# Altium footprint library 497-7740-1-ND.PcbLib: 1 footprints
Each footprint in its own frame and in the unit in brackets; x right, y up, seen from the top. Pads: shape width x height; smd on the part's side, far side on the other; paste and mask are expansions set on the pad; w line width, h text height; cw(c..) or ccw(c..) is an arc to the next point about the centre after c.
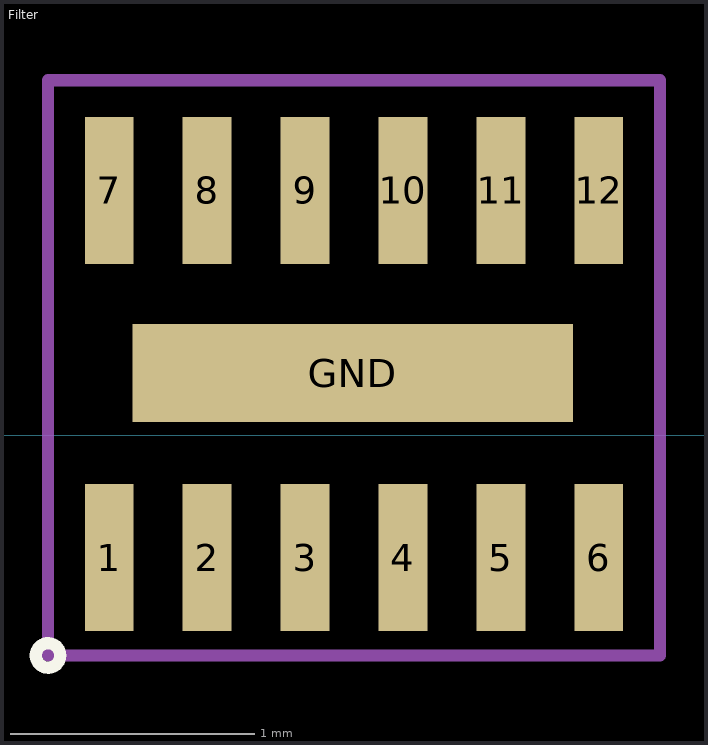
[diagram p0: the footprint, top view; thin cyan lines are the x and y axes]

## Filter [mm] "EMIFilter"
pads (13):
  rect 0.2x0.6 smd mask+0.05: 1(-2.9,-0.5) 2(-2.5,-0.5) 3(-2.1,-0.5) 4(-1.7,-0.5) 5(-1.3,-0.5) 6(-0.9,-0.5) 7(-2.9,1) 8(-2.5,1) 9(-2.1,1) 10(-1.7,1) 11(-1.3,1) 12(-0.9,1)
  rect 1.8x0.4 smd: GND(-1.905,0.254)
Top Overlay:
  circle w0.05: c-3.15,-0.9 r0.05
Mechanical 1:
  lines w0.05: -3.15,0.25 -3.15,1.45 -0.65,1.45 -0.65,0.25 ; -3.15,0.3 -3.15,-0.9 -0.65,-0.9 -0.65,0.3